# Altium footprint library VFD.PcbLib: 3 footprints
Each footprint in its own frame and in the unit in brackets; x right, y up, seen from the top. Pads: shape width x height; smd on the part's side, far side on the other; paste and mask are expansions set on the pad; w line width, h text height; cw(c..) or ccw(c..) is an arc to the next point about the centre after c.
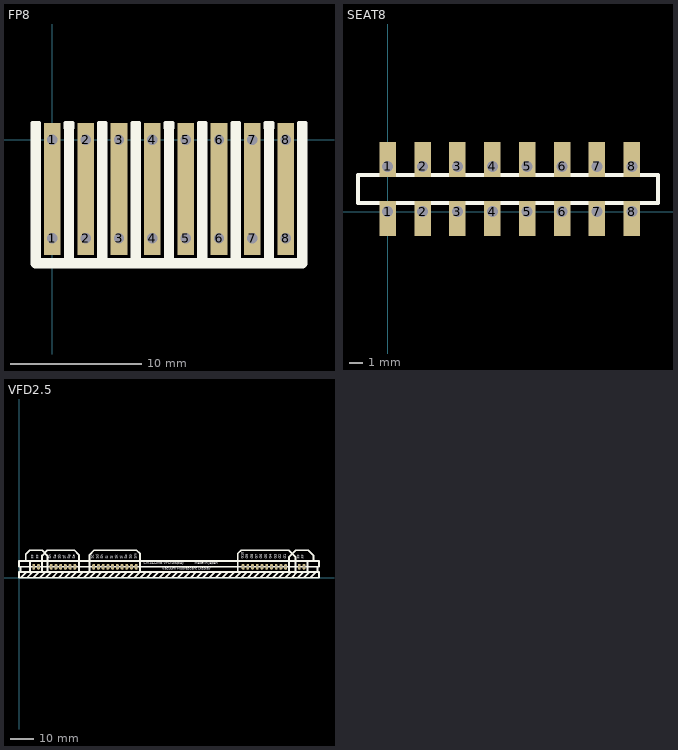
[diagram p0: the footprints below, top view; thin cyan lines are the x and y axes]

## FP8 [mm]
pads (16):
  rect 1.27x5.08 hole 0.8 copper offset 0,1.27: 1(0,-7.493) 2(2.54,-7.493) 3(5.08,-7.493) 4(7.62,-7.493) 5(10.16,-7.493) 6(12.7,-7.493) 7(15.24,-7.493) 8(17.78,-7.493)
  rect 1.27x5.08 hole 0.8 copper offset 0,-1.27: 1(0,0) 2(2.54,0) 3(5.08,0) 4(7.62,0) 5(10.16,0) 6(12.7,0) 7(15.24,0) 8(17.78,0)
Top Overlay:
  lines w0.3: -1.524,0.889 -1.524,1.27 -1.016,1.27 -1.016,0.889 ; 1.016,0.889 1.016,1.27 1.524,1.27 1.524,0.889 ; 3.556,0.889 3.556,1.27 4.064,1.27 4.064,0.889 ; 6.096,0.889 6.096,1.27 6.604,1.27 6.604,0.889 ; 8.636,0.889 8.636,1.27 9.144,1.27 9.144,0.889 ; 11.176,0.889 11.176,1.27 11.684,1.27 11.684,0.889 ; 13.716,0.889 13.716,1.27 14.224,1.27 14.224,0.889 ; 16.256,0.889 16.256,1.27 16.764,1.27 16.764,0.889 ; 18.796,0.889 18.796,1.27 19.304,1.27 19.304,0.889
  lines w0.8: -1.27,0.889 -1.27,-9.398 19.05,-9.398 19.05,0.889 ; 1.27,-9.271 1.27,0.889 ; 3.81,-9.398 3.81,0.889 ; 6.35,-9.398 6.35,0.889 ; 8.89,-9.398 8.89,0.889 ; 11.43,-9.398 11.43,0.889 ; 13.97,-9.398 13.97,0.889 ; 16.51,-9.398 16.51,0.889
Bottom Overlay:
  lines w0.3: -1.524,0.889 -1.524,1.27 -1.016,1.27 -1.016,0.889 ; 1.016,0.889 1.016,1.27 1.524,1.27 1.524,0.889 ; 3.556,0.889 3.556,1.27 4.064,1.27 4.064,0.889 ; 6.096,0.889 6.096,1.27 6.604,1.27 6.604,0.889 ; 8.636,0.889 8.636,1.27 9.144,1.27 9.144,0.889 ; 11.176,0.889 11.176,1.27 11.684,1.27 11.684,0.889 ; 13.716,0.889 13.716,1.27 14.224,1.27 14.224,0.889 ; 16.256,0.889 16.256,1.27 16.764,1.27 16.764,0.889 ; 18.796,0.889 18.796,1.27 19.304,1.27 19.304,0.889
  lines w0.8: -1.27,1.016 -1.27,-9.398 19.05,-9.398 19.05,1.016 ; 1.27,-9.398 1.27,1.016 ; 3.81,-9.398 3.81,1.016 ; 6.35,-9.398 6.35,1.016 ; 8.89,-9.398 8.89,1.016 ; 11.43,-9.398 11.43,1.016 ; 13.97,-9.398 13.97,1.016 ; 16.51,-9.398 16.51,1.016

## SEAT8 [mm]
pads (16):
  rect 1.2x2.54 hole 0.8 copper offset 0,-0.5: 1(0,0) 2(2.54,0) 3(5.08,0) 4(7.62,0) 5(10.16,0) 6(12.7,0) 7(15.24,0) 8(17.78,0)
  rect 1.2x2.54 hole 0.8 copper offset 0,0.5: 1(0,3.302) 2(2.54,3.302) 3(5.08,3.302) 4(7.62,3.302) 5(10.16,3.302) 6(12.7,3.302) 7(15.24,3.302) 8(17.78,3.302)
Top Overlay:
  lines w0.3: -2.159,0.635 -2.159,2.667 19.685,2.667 19.685,0.635 -2.159,0.635

## VFD2.5 [mil]
pads (30):
  oval 50x100 hole 31.5: 0(250,185) 0(330,185) 1(545,185) 2(625,185) 3(705,185) 4(785,185) 5(865,185) 6(945,185) 7(1265,185) 8(1345,185) 9(1425,185) 10(1505,185) 11(1585,185) 12(1665,185) 13(1745,185) 14(1825,185) 15(1905,185) 16(1985,185)
  oval 47.24x100 hole 31.5: 17(3795,185) 18(3875,185) 19(3955,185) 20(4035,185) 21(4115,185) 22(4195,185) 23(4275,185) 24(4355,185) 25(4435,185) 26(4515,185) 27(4745,185) 27(4825,185)
Top Overlay:
  lines w31.5: -0.16,285 5080.16,285 5080.16,185.16 ; 0,284.84 0,185 5080,185 ; 5,0 0,0 ; 25,100 25,185 ; 30,0 130,100 ; 115,285 115,400 180,465 390,465 480,375 480,285 480,100 ; 135,0 235,100 ; 185,105 185,285 ; 245,0 345,100 ; 350,0 450,100 ; 390,100 390,285 390,375 480,465 940,465 1015,390 1015,305 1015,100 ; 455,0 555,100 ; 560,0 660,100 ; 670,0 770,100 ; 775,0 875,100 ; 880,0 980,100 ; 985,0 1085,100 ; 1095,0 1195,100 ; 1195,110 1195,390 1270,465 ; 1200,0 1300,100 ; 1280,465 1270,465 ; 1305,0 1405,100 ; 1410,0 1510,100 ; 1520,0 1620,100 ; 1625,0 1725,100 ; 1735,0 1835,100 ; 1840,0 1940,100 ; 1950,0 2050,100 2050,285 2050,405 1990,465 1270,465 ; 2055,0 2155,100 ; 2160,0 2260,100 ; 2265,0 2365,100 ; 2375,0 2475,100 ; 2480,0 2580,100 ; 2585,0 2685,100 ; 2690,0 2790,100 ; 2800,0 2900,100 ; 2905,0 3005,100 ; 3010,0 3110,100 ; 3115,0 3215,100 ; 3225,0 3325,100 ; 3330,0 3430,100 ; 3445,0 3545,100 ; 3550,0 3650,100 ; 3660,0 3760,100 ; 3705,100 3705,285 ; 3705,275 3705,410 3760,465 4570,465 4685,350 4685,285 4685,100 ; 3765,0 3865,100 ; 3870,0 3970,100 ; 3975,0 4075,100 ; 4085,0 4185,100 ; 4190,0 4290,100 ; 4295,0 4395,100 ; 4400,0 4500,100 ; 4510,0 4610,100 ; 4575,100 4575,280 4575,355 4685,465 4880,465 4900.16,465 4990,375.16 4990,285 ; 4615,0 4715,100 ; 4720,0 4820,100 ; 4825,0 4925,100 ; 4885,100 4885,280 ; 4935,0 5035,100 ; 5055,100 5055,185 ; 0,0 5080.31,0 5080.31,100 0,100 0,0
  text "FF" at 4850,325 h70.87
  text "FF" at 4770,325 h70.87
  text "G3" at 4380,325 h70.87
  text "G2" at 4460,325 h70.87
  text "G1" at 4540,325 h70.87
  text "Sm" at 2010,325 h70.87
  text "Sp" at 1925,325 h70.87
  text "So" at 1850,325 h70.87
  text "Sl" at 1770,325 h70.87
  text "Sk" at 1690,325 h70.87
  text "Sj" at 1605,325 h70.87
  text "Si" at 1525,325 h70.87
  text "Sh" at 1445,325 h70.87
  text "Sd" at 1365,325 h70.87
  text "Sc" at 1285,325 h70.87
  text "Se" at 970,325 h70.87
  text "Sg" at 885,325 h70.87
  text "Sf" at 805,325 h70.87
  text "Sb" at 725,325 h70.87
  text "Sa" at 645,325 h70.87
  text "Sn" at 565,325 h70.87
  text "FF" at 350,325 h70.87
  text "FF" at 270,325 h70.87
  text "G4" at 4300,325 h70.87
  text "G5" at 4220,325 h70.87
  text "G6" at 4140,325 h70.87
  text "G7" at 4060,325 h70.87
  text "G8" at 3980,325 h70.87
  text "G9" at 3900,325 h70.87
  text "G10" at 3820,325 h70.87
  text "CM1422MB VFD Display" at 2115,210 h70.87
  text "Made in Japan" at 2975,210 h70.87
  text "Vacuum Fluorescent Display" at 2425,120 h70.87